# Altium schematic symbol library KIA431AMZ.SchLib: 1 symbol
Pins are listed as number, name and electrical type; pins without a type are passive.

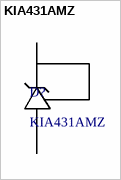
[diagram p0: symbol KIA431AMZ]

## KIA431AMZ
designator D?
footprint KAI431AMZ
footprint KIA431AMZ
pins: 1 67, 2 66, 3 68